# EAGLE library part S-35390A (library Placa_Arduino_Compatible)
S-35390A 2-WIRE REAL-TIME CLOCK The S-35390A is a CMOS 2-wire real-time clock IC which operates with the very low current consumption and in the wide range of operation voltage. The operation voltage is 1.3 V to 5.5 V so that this IC can be used for various power supplies from main supply to backup battery. Due to the 0.25 ?A current consumption and wide range of power supply voltage at time keeping, this IC makes the battery life longer. In the system which operates with a backup battery, the included free registers can be used as the function for user?s backup memory
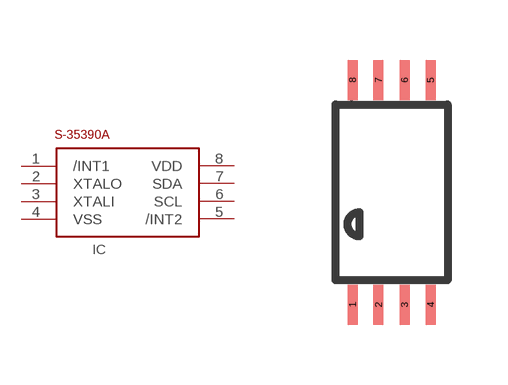
[diagram p64: symbol with the pads of TSSOP-8; footprint TSSOP-8]

Designator prefix IC

## S-35390A-T  [TSSOP-8]
1  /INT1  out
2  XTALO  out
3  XTALI  in
4  VSS  pwr
5  /INT2  out
6  SCL  in
7  SDA
8  VDD  pwr

## Footprint TSSOP-8 (pad centres in mm)
smd 0.25 x 1: 1 -0.975,-2.813; 2 -0.325,-2.813; 3 0.325,-2.813; 4 0.975,-2.813; 5 0.975,2.813; 6 0.325,2.813; 7 -0.325,2.813; 8 -0.975,2.813